# EAGLE library part --MERGED_USB-MINIB (library proxmark3_exported_and_modified_components)
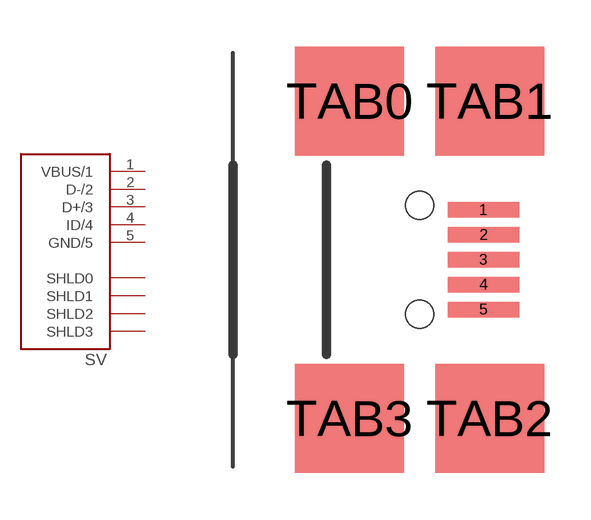
[diagram p13: symbol with the pads of --MERGED_USB-MINIB-SMD; footprint --MERGED_USB-MINIB-SMD]

Designator prefix SV

## --MERGED_USB-MINIB  [--MERGED_USB-MINIB-SMD]
1  VBUS/1
2  D-/2
3  D+/3
4  ID/4
5  GND/5
TAB0  SHLD0
TAB1  SHLD1
TAB2  SHLD2
TAB3  SHLD3

## Footprint --MERGED_USB-MINIB-SMD (pad centres in mm)
smd 2.3 x 0.5: 1 2,0.4; 2 2,-0.4; 3 2,-1.2; 4 2,-2; 5 2,-2.8
smd 3.5 x 3.5: TAB0 -2.3,3.9; TAB1 2.2,3.9; TAB2 2.2,-6.3; TAB3 -2.3,-6.3
hole 0.9 at -0.05,0.55
hole 0.9 at -0.05,-2.95